# EAGLE library part TQ2-2M (library relay)
TQ2-2M RELAY TELECOM DPDT 1A 24V Panasonic
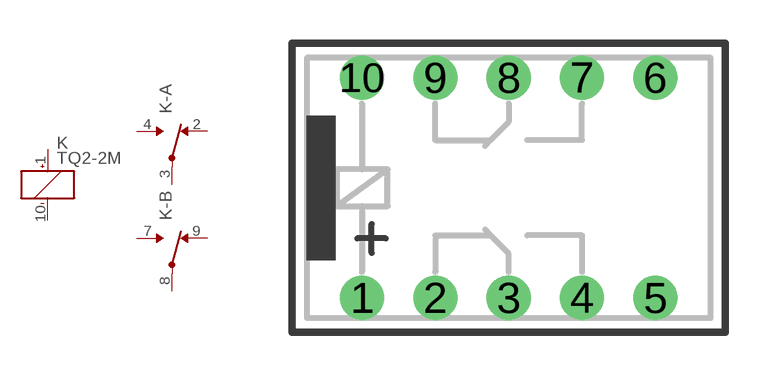
[diagram p62: symbol with the pads of TQ2-2M; footprint TQ2-2M]

Designator prefix K; gates G$1=K+- -A=U -B=U

## TQ2-2M  [TQ2-2M]
1  G$1:+  pas
2  -A:NC  pas
3  -A:COM  pas
4  -A:NO  pas
7  -B:NO  pas
8  -B:COM  pas
9  -B:NC  pas
10  G$1:-  pas

## Footprint TQ2-2M (pad centres in mm)
RELAY TELECOM DPDT 1A 24V PANASONIC TQ2 SERIES
drill 1.016: 1 -5.08,-3.81; 2 -2.54,-3.81; 3 0,-3.81; 4 2.54,-3.81; 5 5.08,-3.81; 6 5.08,3.81; 7 2.54,3.81; 8 0,3.81; 9 -2.54,3.81; 10 -5.08,3.81